# EAGLE library part POWERSENSOR (library powerboard)
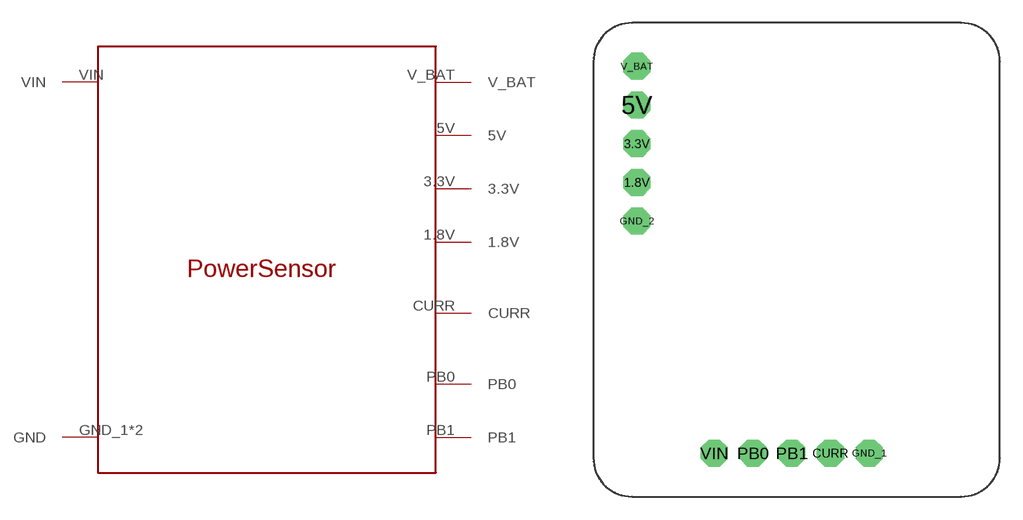
[diagram p1: symbol with the pads of POWERSENSOR; footprint POWERSENSOR]

Designator prefix -

## POWERSENSOR  [POWERSENSOR]
1.8V  1.8V
3.3V  3.3V
5V  5V
CURR  CURR
GND_1  GND
GND_2  GND
PB0  PB0
PB1  PB1
V_BAT  V_BAT
VIN  VIN

## Footprint POWERSENSOR (pad centres in mm)
drill 1 pad 1.778 octagon: 1.8V 2.857,20.637; 3.3V 2.857,23.177; 5V 2.857,25.718; CURR 15.557,2.857; GND_1 18.098,2.857; GND_2 2.857,18.098; PB0 10.477,2.857; PB1 13.018,2.857; V_BAT 2.857,28.258; VIN 7.938,2.857